# Altium schematic symbol library SCH - DIODES - NEXPERIA BAT54S.SCHLIB: 1 symbol
Pins are listed as number, name and electrical type; pins without a type are passive.

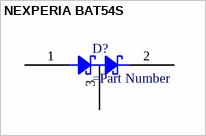
[diagram p0: symbol NEXPERIA BAT54S]

## NEXPERIA BAT54S
designator D?
pins: 1 A1, 2 K2, 3 K1A2